# Altium schematic symbol library opamp.SchLib: 4 symbols
Pins are listed as number, name and electrical type; pins without a type are passive.

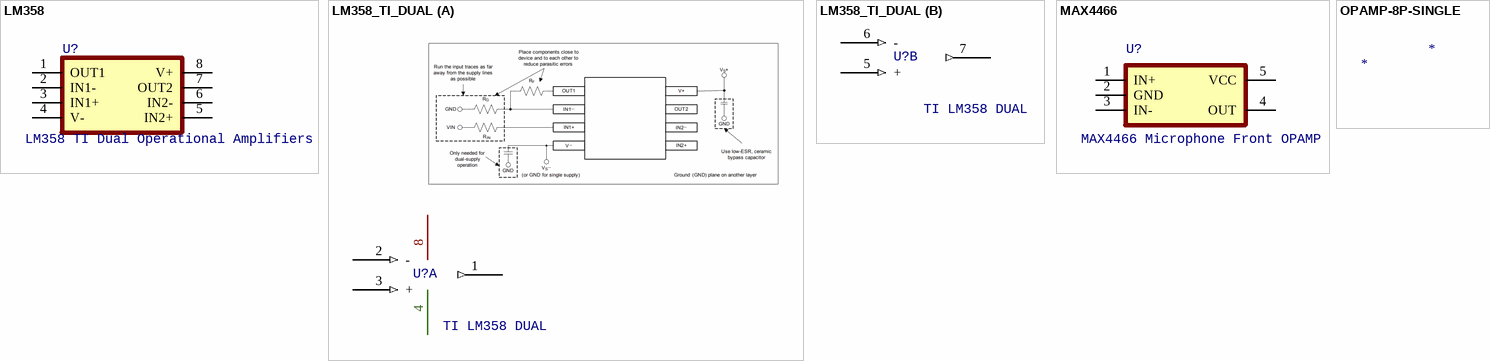
[diagram p0: symbols LM358 to OPAMP-8P-SINGLE]

## LM358
designator U?, comment LM358 TI Dual Operational Amplifiers
TI Dual Operational Amplifiers --> https://www.ti.com/lit/ds/symlink/lm158a.pdf?HQS=TI-null-null-alldatasheets-df-pf-SEP-wwe
footprint TI MSOP-8 DGS (MSOP, 8-Leads, Body 3.00x4.40mm, Pitch 0.65mm, IPC Medium Density)
footprint _SOP_E150_8
pins: 1 OUT1, 2 IN1-, 3 IN1+, 4 V-, 5 IN2+, 6 IN2-, 7 OUT2, 8 V+

## LM358_TI_DUAL
designator U?, comment TI LM358 DUAL
footprint DIP_300_8
footprint TI TSSOP-8 PW (TSSOP, 8-Leads, Body 3.00x6.60mm, Pitch 0.65mm, IPC Medium Density)
part A pins: 1 OUT (out), 2 - (in), 3 + (in), 4 gnd, 8 vcc
part B pins: 5 + (in), 6 - (in), 7 OUT2 (out)

## MAX4466
designator U?, comment MAX4466 Microphone Front OPAMP
Microphone Front OPAMP
footprint _SOT23-5
pins: 1 IN+, 2 GND, 3 IN-, 4 OUT, 5 VCC

## OPAMP-8P-SINGLE
designator *